# EAGLE library part TSW-S-38 (library con-samtec-tsw)
HEADER
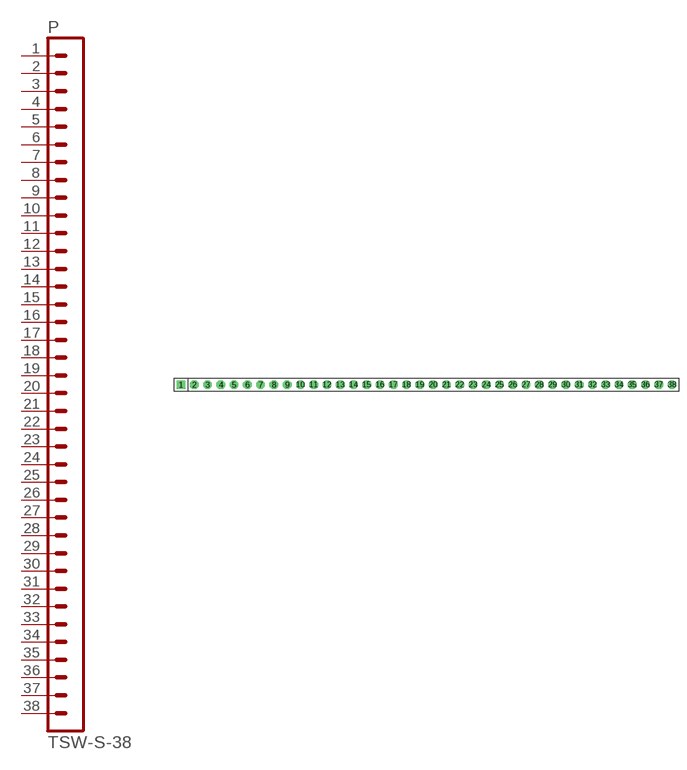
[diagram p32: symbol with the pads of TSW-S-38; footprint TSW-S-38]

Designator prefix P

## TSW-S-38  [TSW-S-38]
1  1  pas
2  2  pas
3  3  pas
4  4  pas
5  5  pas
6  6  pas
7  7  pas
8  8  pas
9  9  pas
10  10  pas
11  11  pas
12  12  pas
13  13  pas
14  14  pas
15  15  pas
16  16  pas
17  17  pas
18  18  pas
19  19  pas
20  20  pas
21  21  pas
22  22  pas
23  23  pas
24  24  pas
25  25  pas
26  26  pas
27  27  pas
28  28  pas
29  29  pas
30  30  pas
31  31  pas
32  32  pas
33  33  pas
34  34  pas
35  35  pas
36  36  pas
37  37  pas
38  38  pas

## Footprint TSW-S-38 (pad centres in mm)
HEADER
drill 0.914 pad 1.676 square: 1 -46.99,0
drill 0.914 pad 1.676 octagon: 2 -44.45,0; 3 -41.91,0; 4 -39.37,0; 5 -36.83,0; 6 -34.29,0; 7 -31.75,0; 8 -29.21,0; 9 -26.67,0; 10 -24.13,0; 11 -21.59,0; 12 -19.05,0; 13 -16.51,0; 14 -13.97,0; 15 -11.43,0; 16 -8.89,0; 17 -6.35,0; 18 -3.81,0; 19 -1.27,0; 20 1.27,0; 21 3.81,0; 22 6.35,0; 23 8.89,0; 24 11.43,0; 25 13.97,0; 26 16.51,0; 27 19.05,0; 28 21.59,0; 29 24.13,0; 30 26.67,0; 31 29.21,0; 32 31.75,0; 33 34.29,0; 34 36.83,0; 35 39.37,0; 36 41.91,0; 37 44.45,0; 38 46.99,0